# Altium footprint library Cap_Kemet_T521B226M025ATE100_22uF.PcbLib: 1 footprints
Each footprint in its own frame and in the unit in brackets; x right, y up, seen from the top. Pads: shape width x height; smd on the part's side, far side on the other; paste and mask are expansions set on the pad; w line width, h text height; cw(c..) or ccw(c..) is an arc to the next point about the centre after c.
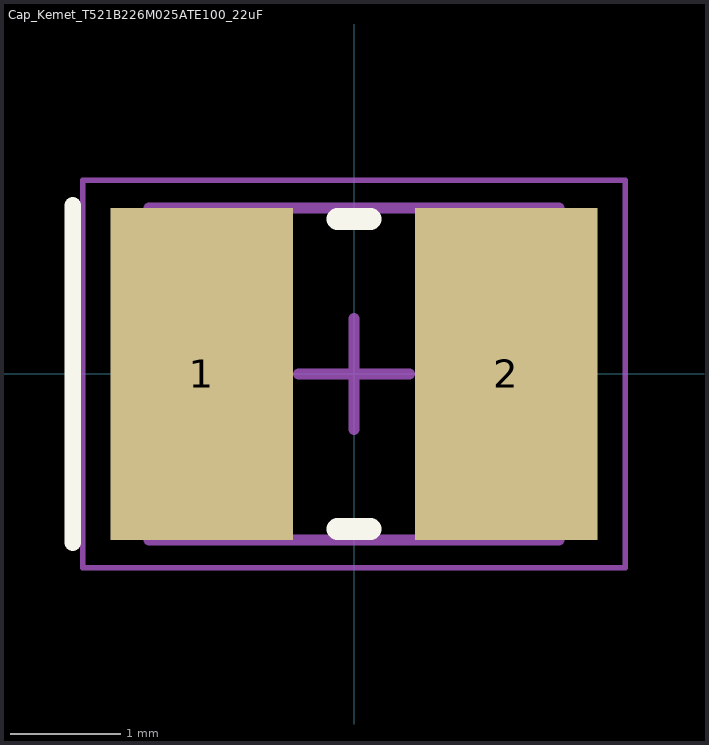
[diagram p0: the footprint, top view; thin cyan lines are the x and y axes]

## Cap_Kemet_T521B226M025ATE100_22uF [mm]
height 2.1
pads (2):
  rect 1.65x3 smd: 1(-1.375,0) 2(1.375,0)
Top Overlay:
  lines w0.15: -2.54,-1.524 -2.54,1.524
  lines w0.2: -0.15,-1.4 0.15,-1.4 ; -0.15,1.4 0.15,1.4
Mechanical 13:
  lines w0.1: -1.85,-1.5 -1.85,1.5 1.85,1.5 1.85,-1.5 -1.85,-1.5
Mechanical 15:
  lines w0.05: -2.45,-1.75 -2.45,1.75 2.45,1.75 2.45,-1.75 -2.45,-1.75
  lines w0.1: -0.5,0 0.5,0 ; 0,-0.5 0,0.5
3D body "Chip2PinSM127P600-8N.step": height 2.1, standoff 0, extent -1.85,-1.5 1.85,1.5